# EAGLE library part HEADER-SOCKET-16 (library HEADER-SOCKET)
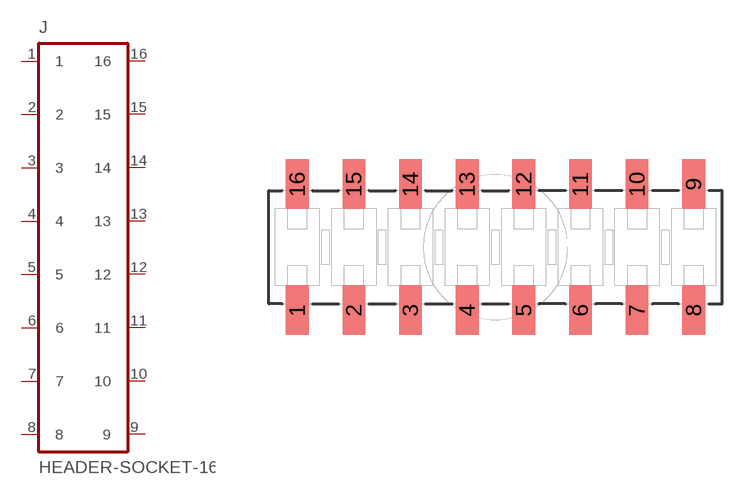
[diagram p0: symbol with the pads of SSM-108-L-DV; footprint SSM-108-L-DV]

Designator prefix J

## HEADER-SOCKET-16_SSM-108-F-DV  [SSM-108-L-DV]
1  1
2  2
3  3
4  4
5  5
6  6
7  7
8  8
9  9
10  10
11  11
12  12
13  13
14  14
15  15
16  16

## Footprint SSM-108-L-DV (pad centres in mm)
smd 1.02 x 2.22: 1 -8.89,-2.825; 2 -6.35,-2.825; 3 -3.81,-2.825; 4 -1.27,-2.825; 5 1.27,-2.825; 6 3.81,-2.825; 7 6.35,-2.825; 8 8.89,-2.825; 9 8.89,2.825; 10 6.35,2.825; 11 3.81,2.825; 12 1.27,2.825; 13 -1.27,2.825; 14 -3.81,2.825; 15 -6.35,2.825; 16 -8.89,2.825